# Altium footprint library PAL_0 (1).PcbLib: 141 footprints (part 1 of 9)
Each footprint in its own frame and in the unit in brackets; x right, y up, seen from the top. Pads: shape width x height; smd on the part's side, far side on the other; paste and mask are expansions set on the pad; w line width, h text height; cw(c..) or ccw(c..) is an arc to the next point about the centre after c.
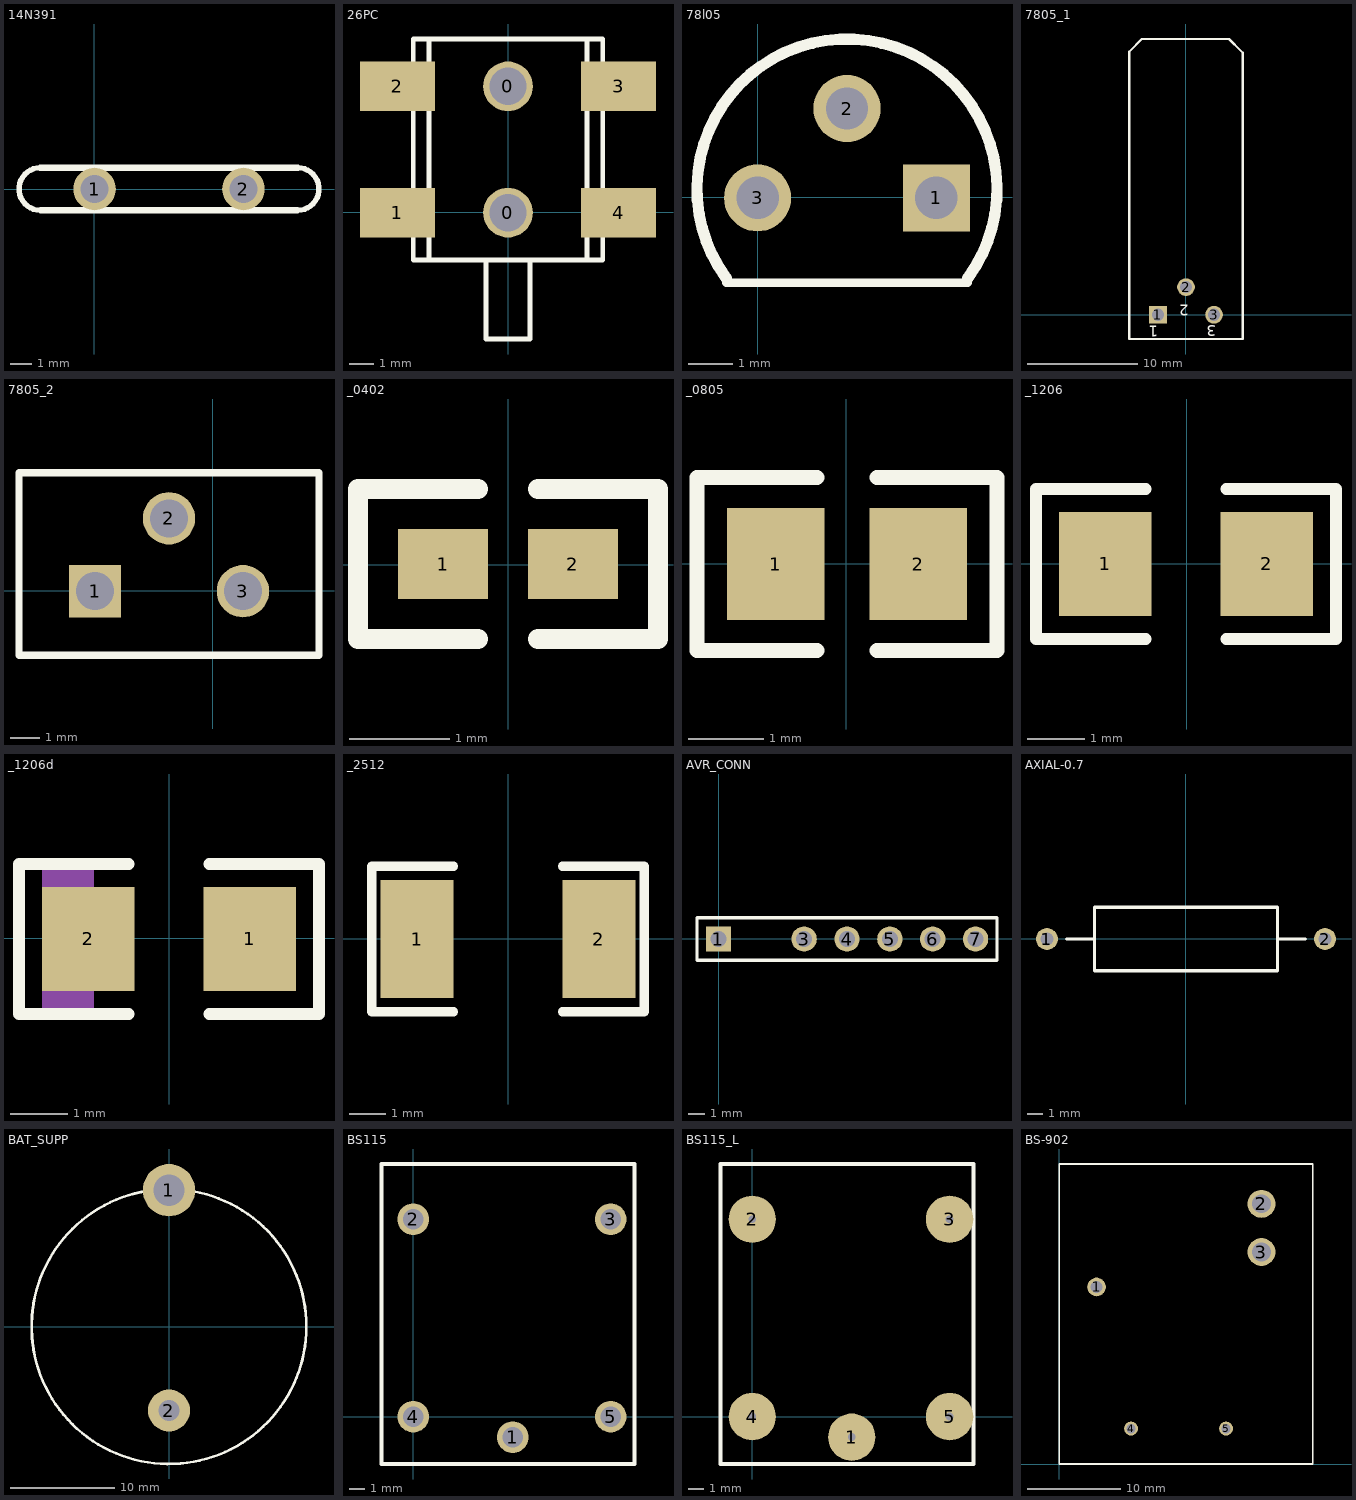
[diagram p0: the footprints below, top view; thin cyan lines are the x and y axes]

## 14N391 [mm]
pads (2):
  round 2 hole 1.3: 1(0.003,0.002) 2(7.003,0.002)
Top Overlay:
  lines w0.254: -2.547,-0.999 cw(c-2.547,0.002) -2.547,1.002 ; 9.553,-0.999 ccw(c9.553,0.002) 9.553,1.002
  lines w0.3: -2.547,1.002 3.502,1.002 9.553,1.002 ; -2.522,-0.998 3.503,-0.998 9.528,-0.998

## 26PC [mm]
pads (6):
  round 2 hole 1.5: 0(-0.012,-0.01) 0(-0.012,5.07)
  rect 3x2 smd: 1(-4.457,-0.01) 2(-4.457,5.07) 3(4.433,5.07) 4(4.433,-0.01)
Top Overlay:
  lines w0.2: -3.187,-1.915 -3.187,6.975 ; -0.901,-1.915 -0.901,-5.09 0.877,-5.09 0.877,-1.915 ; 3.163,-1.915 3.163,6.975 ; -3.822,-1.915 3.798,-1.915 3.798,6.975 -3.822,6.975 -3.822,-1.915

## 78l05 [mm]
pads (3):
  rect 1.5x1.5 hole 0.95: 1(3.994,-0.012)
  round 1.5 hole 0.95: 2(1.994,1.988) 3(-0.006,-0.012)
Top Overlay:
  lines w0.2: -0.701,-1.908 4.689,-1.908
  lines w0.254: -0.701,-1.808 cw(c1.994,0.188) 4.689,-1.808

## 7805_1 [mm]
pads (3):
  rect 1.6x1.6 hole 1.1: 1(-2.538,-0.011)
  round 1.6 hole 1.1: 2(0.002,2.489) 3(2.542,-0.011)
Top Overlay:
  lines w0.2: 5.152,2.489 5.152,23.739 5.002,23.889 3.902,24.989 -3.998,24.989 -5.148,23.839 -5.148,2.689 -5.148,-2.211 5.152,-2.211 5.152,2.689
  text "3" at 2.752,-0.961 h1
  text "2" at 0.252,0.889 h1
  text "1" at -2.498,-1.011 h1

## 7805_2 [mm]
pads (3):
  rect 1.8x1.8 hole 1.3: 1(-4.042,-0.011)
  round 1.8 hole 1.3: 2(-1.502,2.489) 3(1.038,-0.011)
Top Overlay:
  lines w0.2: -6.652,2.689 -6.652,-2.211 3.648,-2.211 3.648,2.689
  lines w0.254: -6.652,-2.211 -6.652,4.053 3.648,4.053 3.648,-2.211 -6.652,-2.211 ; -6.652,-2.211 -6.652,-2.211

## _0402 [mm]
pads (2):
  rect 0.9x0.7 smd: 1(-0.651,0.007) 2(0.649,0.007)
Top Overlay:
  lines w0.2: -0.301,-0.743 -1.501,-0.743 -1.501,0.757 -0.301,0.757 ; 0.299,-0.743 1.499,-0.743 1.499,0.757 0.299,0.757

## _0805 [mm]
pads (2):
  rect 1.3x1.5 smd: 1(-0.942,-0.005) 2(0.958,-0.005)
Top Overlay:
  lines w0.2: -0.392,-1.155 -1.992,-1.155 -1.992,1.145 -0.392,1.145 ; 0.408,-1.155 2.008,-1.155 2.008,1.145 0.408,1.145

## _1206 [mm]
pads (2):
  rect 1.6x1.8 smd: 1(-1.412,-0.007) 2(1.388,-0.007)
Top Overlay:
  lines w0.2: -0.712,-1.307 -2.612,-1.307 -2.612,1.293 -0.712,1.293 ; 0.688,-1.307 2.588,-1.307 2.588,1.293 0.688,1.293

## _1206d [mm]
pads (2):
  rect 1.6x1.8 smd: 1(1.395,-0.009) 2(-1.405,-0.009)
Top Overlay:
  lines w0.2: -0.705,-1.309 -2.605,-1.309 -2.605,1.291 -0.705,1.291 ; 0.695,-1.309 2.595,-1.309 2.595,1.291 0.695,1.291
Mechanical 2:
  rectangle: -2.204,-1.309 -1.304,1.291

## _2512 [mm]
pads (2):
  rect 2x3.25 smd: 1(-2.501,-0.008) 2(2.499,-0.008)
Top Overlay:
  lines w0.254: -1.501,-2.008 -3.751,-2.008 -3.751,1.992 -1.501,1.992 ; 1.499,-2.008 3.749,-2.008 3.749,1.992 1.499,1.992

## AVR_CONN [mm]
pads (6):
  rect 1.5x1.5 hole 0.95: 1(-0.007,-0.001)
  round 1.5 hole 0.95: 3(5.073,-0.001) 4(7.613,-0.001) 5(10.153,-0.001) 6(12.693,-0.001) 7(15.233,-0.001)
Top Overlay:
  lines w0.2: -1.277,-1.271 16.503,-1.271 16.503,1.269 -1.277,1.269 -1.277,-1.271

## AXIAL-0.7 [mm]
pads (2):
  round 1.4 hole 0.85: 1(-8.887,-0.008) 2(8.893,-0.008)
Top Overlay:
  lines w0.2: -7.617,-0.008 -5.839,-0.008 ; 5.845,-0.008 7.623,-0.008 ; -5.839,-2.04 -5.839,2.024 5.845,2.024 5.845,-2.04 -5.839,-2.04

## BAT_SUPP [mm]
pads (2):
  round 5 hole 3: 1(-0.009,12.995)
  round 4 hole 2: 2(-0.009,-8.005)
Top Overlay:
  circle w0.254: c-0.009,-0.005 r13.1

## BS115 [mm]
pads (5):
  round 2 hole 1.3: 1(6.292,-1.304) 2(-0.008,12.496) 3(12.492,12.496) 4(-0.008,-0.004) 5(12.492,-0.004)
Top Overlay:
  lines w0.254: -2.008,-3.004 -2.008,15.996 13.992,15.996 13.992,-3.004 6.292,-3.004 -2.008,-3.004

## BS115_L [mm]
pads (5):
  round 3 hole 0.5: 1(6.292,-1.304) 2(-0.008,12.496) 3(12.492,12.496) 4(-0.008,-0.004) 5(12.492,-0.004)
Top Overlay:
  lines w0.254: -2.008,-3.004 6.292,-3.004 13.992,-3.004 13.992,15.996 -2.008,15.996 -2.008,-3.004

## BS-902 [mm]
pads (5):
  round 2 hole 1.3: 1(3.994,19.007)
  round 3 hole 2: 2(21.694,27.932) 3(21.694,22.757)
  round 1.5 hole 1: 4(7.694,3.807) 5(17.894,3.807)
Top Overlay:
  lines w0.2: -0.006,0.007 -0.006,32.207 27.194,32.207 27.194,0.007 -0.006,0.007